# Altium footprint library Componentes Deived Projetos PCB.PcbLib: 87 footprints (part 6 of 6)
Each footprint in its own frame and in the unit in brackets; x right, y up, seen from the top. Pads: shape width x height; smd on the part's side, far side on the other; paste and mask are expansions set on the pad; w line width, h text height; cw(c..) or ccw(c..) is an arc to the next point about the centre after c.
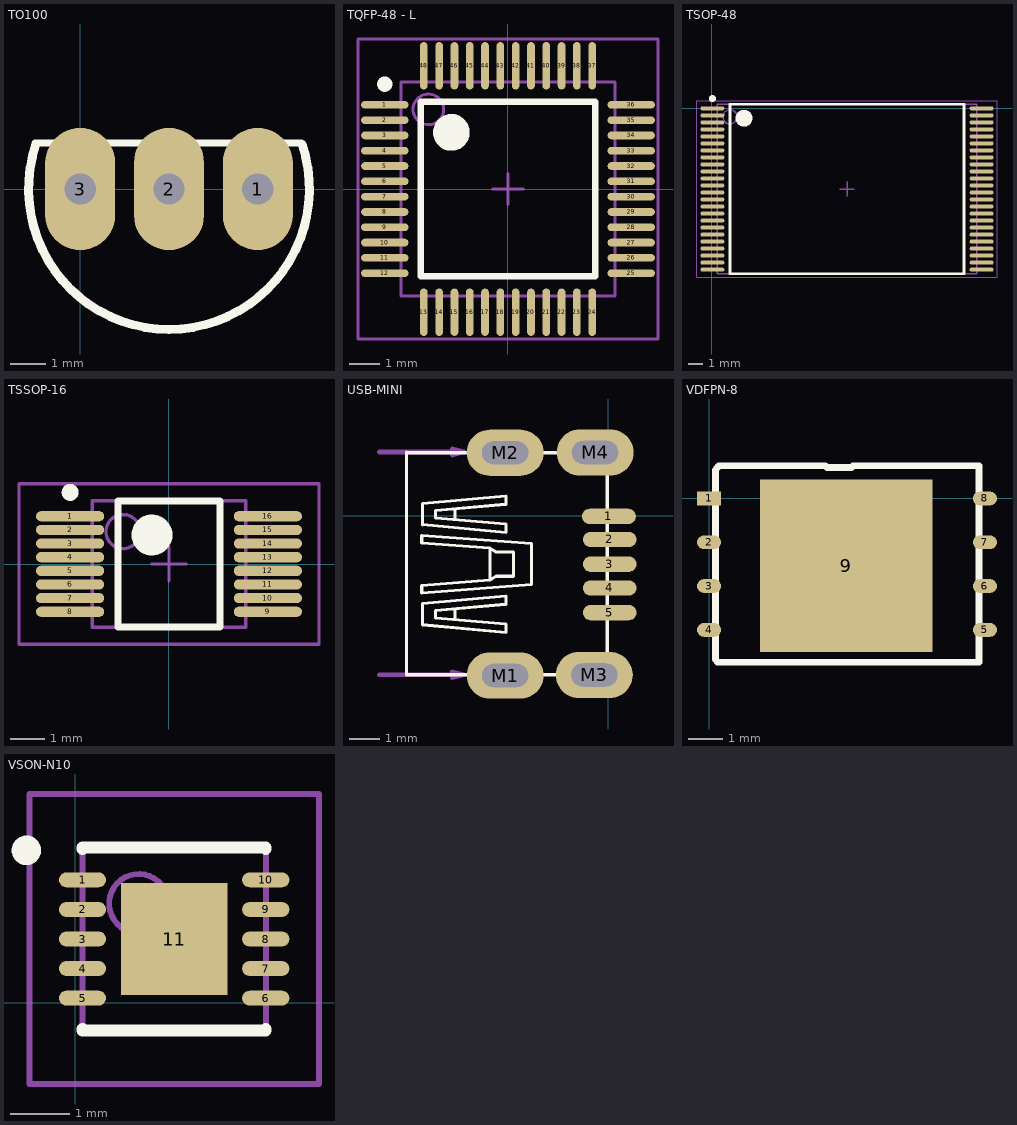
[diagram p5: the footprints below, top view; thin cyan lines are the x and y axes]

## TO100 [mm]
pads (3):
  oval 2x3.5 hole 0.9: 1(5.08,0) 2(2.54,0) 3(0,0)
Top Overlay:
  lines w0.2: -1.295,1.32 6.325,1.32
  lines w0.254: -1.27,1.27 ccw(c2.54,0) 6.35,1.27

## TQFP-48 - L [mm]
pads (48):
  oval 1.55x0.25 smd: 1(-4.025,2.75) 2(-4.025,2.25) 3(-4.025,1.75) 4(-4.025,1.25) 5(-4.025,0.75) 6(-4.025,0.25) 7(-4.025,-0.25) 8(-4.025,-0.75) 9(-4.025,-1.25) 10(-4.025,-1.75) 11(-4.025,-2.25) 12(-4.025,-2.75) 25(4.025,-2.75) 26(4.025,-2.25) 27(4.025,-1.75) 28(4.025,-1.25) 29(4.025,-0.75) 30(4.025,-0.25) 31(4.025,0.25) 32(4.025,0.75) 33(4.025,1.25) 34(4.025,1.75) 35(4.025,2.25) 36(4.025,2.75)
  oval 0.25x1.55 smd: 13(-2.75,-4.025) 14(-2.25,-4.025) 15(-1.75,-4.025) 16(-1.25,-4.025) 17(-0.75,-4.025) 18(-0.25,-4.025) 19(0.25,-4.025) 20(0.75,-4.025) 21(1.25,-4.025) 22(1.75,-4.025) 23(2.25,-4.025) 24(2.75,-4.025) 37(2.75,4.025) 38(2.25,4.025) 39(1.75,4.025) 40(1.25,4.025) 41(0.75,4.025) 42(0.25,4.025) 43(-0.25,4.025) 44(-0.75,4.025) 45(-1.25,4.025) 46(-1.75,4.025) 47(-2.25,4.025) 48(-2.75,4.025)
Top Overlay:
  circle w0.25: c-4.025,3.425 r0.125
  circle w0.6: c-1.85,1.85 r0.3
  lines w0.2: -2.85,-2.85 -2.85,2.85 2.85,2.85 2.85,-2.85 -2.85,-2.85
Mechanical 13:
  circle w0.1: c-2.6,2.6 r0.5
  lines w0.1: -3.5,-3.5 -3.5,3.5 3.5,3.5 3.5,-3.5 -3.5,-3.5
Mechanical 15:
  lines w0.1: -0.5,0 0.5,0 ; 0,-0.5 0,0.5 ; -4.9,-4.9 -4.9,4.9 4.9,4.9 4.9,-4.9 -4.9,-4.9
3D body: height 1.6, standoff 0, extent -3.5,-3.5 3.5,3.5

## TSOP-48 [mm]
pads (48):
  oval 1.7x0.3 smd: 1(0.037,0) 2(0.037,-0.5) 3(0.037,-1) 4(0.037,-1.5) 5(0.037,-2) 6(0.037,-2.5) 7(0.037,-3) 8(0.037,-3.5) 9(0.037,-4) 10(0.037,-4.5) 11(0.037,-5) 12(0.037,-5.5) 13(0.037,-6) 14(0.037,-6.5) 15(0.037,-7) 16(0.037,-7.5) 17(0.037,-8) 18(0.037,-8.5) 19(0.037,-9) 20(0.037,-9.5) 21(0.037,-10) 22(0.037,-10.5) 23(0.037,-11) 24(0.037,-11.5) 25(19.237,-11.5) 26(19.237,-11) 27(19.237,-10.5) 28(19.237,-10) 29(19.237,-9.5) 30(19.237,-9) 31(19.237,-8.5) 32(19.237,-8) 33(19.237,-7.5) 34(19.237,-7) 35(19.237,-6.5) 36(19.237,-6) 37(19.237,-5.5) 38(19.237,-5) 39(19.237,-4.5) 40(19.237,-4) 41(19.237,-3.5) 42(19.237,-3) 43(19.237,-2.5) 44(19.237,-2) 45(19.237,-1.5) 46(19.237,-1) 47(19.237,-0.5) 48(19.237,0)
Top Overlay:
  circle w0.25: c0.037,0.7 r0.125
  circle w0.6: c2.287,-0.7 r0.3
  lines w0.2: 1.287,-11.8 1.287,0.3 17.987,0.3 17.987,-11.8 1.287,-11.8
Mechanical 13:
  circle w0.1: c1.287,-0.6 r0.5
  lines w0.1: 0.387,-11.8 0.387,0.3 18.887,0.3 18.887,-11.8 0.387,-11.8
Mechanical 15:
  lines w0.05: -1.063,-12.05 -1.063,0.55 20.337,0.55 20.337,-12.05 -1.063,-12.05
  lines w0.1: 9.137,-5.75 10.137,-5.75 ; 9.637,-6.25 9.637,-5.25
3D body: height 0.05, standoff 0, extent 0.387,-11.8 18.887,0.3

## TSSOP-16 [mm]
pads (16):
  oval 2x0.3 smd: 1(-2.9,1.4) 2(-2.9,1) 3(-2.9,0.6) 4(-2.9,0.2) 5(-2.9,-0.2) 6(-2.9,-0.6) 7(-2.9,-1) 8(-2.9,-1.4) 9(2.9,-1.4) 10(2.9,-1) 11(2.9,-0.6) 12(2.9,-0.2) 13(2.9,0.2) 14(2.9,0.6) 15(2.9,1) 16(2.9,1.4)
Top Overlay:
  circle w0.25: c-2.9,2.1 r0.125
  circle w0.6: c-0.5,0.85 r0.3
  lines w0.2: -1.5,-1.85 -1.5,1.85 1.5,1.85 1.5,-1.85 -1.5,-1.85
Mechanical 13:
  circle w0.1: c-1.35,0.95 r0.5
  lines w0.1: -2.25,-1.85 -2.25,1.85 2.25,1.85 2.25,-1.85 -2.25,-1.85
Mechanical 15:
  lines w0.1: -0.5,0 0.5,0 ; 0,-0.5 0,0.5 ; -4.4,-2.35 -4.4,2.35 4.4,2.35 4.4,-2.35 -4.4,-2.35
3D body: height 1.2, standoff 0, extent -2.25,-1.85 2.25,1.85

## USB-MINI [mil]
pads (9):
  oval 70x20 smd: 1(0.7,-1) 2(1.7,-31) 3(1.7,-62.99) 4(1.7,-94) 5(1.7,-125.98)
  oval 100x60 hole 30 slot 60 at 0 deg: M1(-134.12,-207.68) M2(-134.12,81.69) M3(-18.3,-207) M4(-17.3,82)
Top Overlay:
  lines w4: -224.67,-124.02 -224.67,-132.87 -133.13,-140.75 -133.13,-151.57 -241.4,-141.73 -241.4,-114.17 -133.13,-104.33 -133.13,-115.16 -224.67,-123.03 ; -224.67,-2.95 -133.13,-10.83 -133.13,-21.65 -241.4,-11.81 -241.4,15.75 -133.13,25.59 -133.13,14.76 -224.67,6.89 -224.67,-1.97 ; -199.08,-133.86 -199.08,-123.03 ; -199.08,-2.95 -199.08,7.87 ; -153.8,-83.66 -242.39,-90.55 -242.39,-100.39 -99.67,-89.57 -99.67,-62.99 -99.67,-36.42 -242.39,-25.59 -242.39,-35.43 -153.8,-42.32 ; -153.8,-83.66 -145.93,-78.74 -123.29,-78.74 -123.29,-62.99 -123.29,-47.24 -145.93,-47.24 -153.8,-42.32 ; -153.8,-83.66 -153.8,-62.99 -153.8,-42.32 ; -262.3,-206.69 -1.52,-206.69 -1.52,81.69 -261.31,81.69 -262.3,82.68 -262.3,-206.69
Mechanical 1:
  lines w6: -297.5,-206.69 -187.27,-206.69 ; -297.5,82.68 -187.27,82.68 ; -132.15,-194.88 -110.5,-194.88 cw(c-110.5,-208.66) -96.72,-208.66 cw(c-110.5,-208.66) -110.5,-222.44 -159.71,-222.44 cw(c-159.71,-210.63) -171.52,-210.63 -171.52,-206.69 cw(c-159.71,-206.69) -159.71,-194.88 -112.46,-194.88 ; -132.15,94.49 -110.5,94.49 cw(c-110.5,80.71) -96.72,80.71 cw(c-110.5,80.71) -110.5,66.93 -159.71,66.93 cw(c-159.71,78.74) -171.52,78.74 -171.52,82.68 cw(c-159.71,82.68) -159.71,94.49 -112.46,94.49 ; -16.33,-194.2 5.32,-194.2 cw(c5.32,-207.98) 19.1,-207.98 cw(c5.32,-207.98) 5.32,-221.76 -43.89,-221.76 cw(c-43.89,-209.95) -55.7,-209.95 -55.7,-206.02 cw(c-43.89,-206.02) -43.89,-194.2 3.35,-194.2 ; -16.33,95.17 5.32,95.17 cw(c5.32,81.39) 19.1,81.39 cw(c5.32,81.39) 5.32,67.61 -43.89,67.61 cw(c-43.89,79.42) -55.7,79.42 -55.7,83.35 cw(c-43.89,83.35) -43.89,95.17 3.35,95.17 ; -187.27,-206.69 -203.02,-202.76 -203.02,-210.63 -187.27,-206.69 ; -187.27,82.68 -203.02,78.74 -203.02,86.61 -187.27,82.68
  text "1.4 mm X 0.7 mm slot" at -880.18,70.87 h30
  text "1.4 mm X 0.7 mm slot" at -872.31,-216.54 h30
3D body "513870528.stp": height 165.71, standoff -64.61, extent -262.06,-214.57 1.72,88.58

## VDFPN-8 [mm]
pads (9):
  rect 0.7x0.4 smd: 1(0,0)
  oval 0.7x0.4 smd: 2(0,-1.27) 3(0,-2.54) 4(0,-3.81) 5(8,-3.81) 6(8,-2.54) 7(8,-1.27) 8(8,0)
  rect 5x5 smd: 9(3.975,-1.95)
Top Overlay:
  lines w0.2: 4.125,0.9 3.417,0.9 3.367,0.95 0.285,0.95 0.185,0.82 0.185,-4.669 0.25,-4.75 7.825,-4.75 7.825,0.95 4.175,0.95

## VSON-N10 [mm]
pads (11):
  oval 0.8x0.25 smd: 1(0.125,2.075) 2(0.125,1.575) 3(0.125,1.075) 4(0.125,0.575) 5(0.125,0.075) 6(3.225,0.075) 7(3.225,0.575) 8(3.225,1.075) 9(3.225,1.575) 10(3.225,2.075)
  rect 1.8x1.9 smd: 11(1.675,1.075)
Top Overlay:
  circle w0.25: c-0.825,2.575 r0.125
  lines w0.2: 0.125,-0.45 0.125,-0.475 3.225,-0.475 3.225,-0.45 ; 0.125,2.6 0.125,2.625 3.225,2.625 3.225,2.6
Mechanical 13:
  circle w0.1: c1.075,1.675 r0.5
  lines w0.1: 0.125,-0.475 0.125,2.625 3.225,2.625 3.225,-0.475 0.125,-0.475
Mechanical 15:
  lines w0.1: 1.175,1.075 2.175,1.075 ; 1.675,0.575 1.675,1.575 ; -0.775,-1.375 -0.775,3.525 4.125,3.525 4.125,-1.375 -0.775,-1.375
3D body: height 0.8, standoff 0, extent 0.125,-0.475 3.225,2.625